# Altium schematic symbol library JST.SchLib: 2 symbols
Pins are listed as number, name and electrical type; pins without a type are passive.

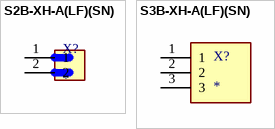
[diagram p0: symbols S2B-XH-A(LF)(SN) to S3B-XH-A(LF)(SN)]

## S2B-XH-A(LF)(SN)
designator X?
Connector Header Through Hole, Right Angle 2 position 0.098 (2.50mm); MP: S2B-XH-A(LF)(SN); MF: JST Sales; Package: None; Value: *; Price: None; SnapEDA_Link: https://www.snapeda.com/parts/S2B-XH-A(LF)(SN)/JST%20Sales%20America%20Inc./view-part/46871/?ref=snap; Check_prices: https://www.snapeda.com/parts/S2B-XH-A(LF)(SN)/JST%20Sales%20America%20Inc./view-part/46871/?ref=eda; Availability: In Stock
footprint JST_S2B-XH-A(LF)(SN)
pins: 1, 2

## S3B-XH-A(LF)(SN)
designator X?
Connector Header Through Hole, Right Angle 3 position 0.098 _2.50mm_; MP: S3B-XH-A_LF__SN_; MF: JST Sales; SnapEDA_Link: https://www.snapeda.com/parts/S3B-XH-A%28LF%29%28SN%29/JST%20Sales%20America%20Inc./view-part/46873/?ref=snap; Availability: Unavailable; Package: FakePackage u; Value: *; Price: None
footprint JST_S3B-XH-A(LF)(SN)
pins: 1, 2, 3